# Altium schematic symbol library kmilo17pet-NSC_Interface.SchLib: 1433 symbols (part 45 of 51)
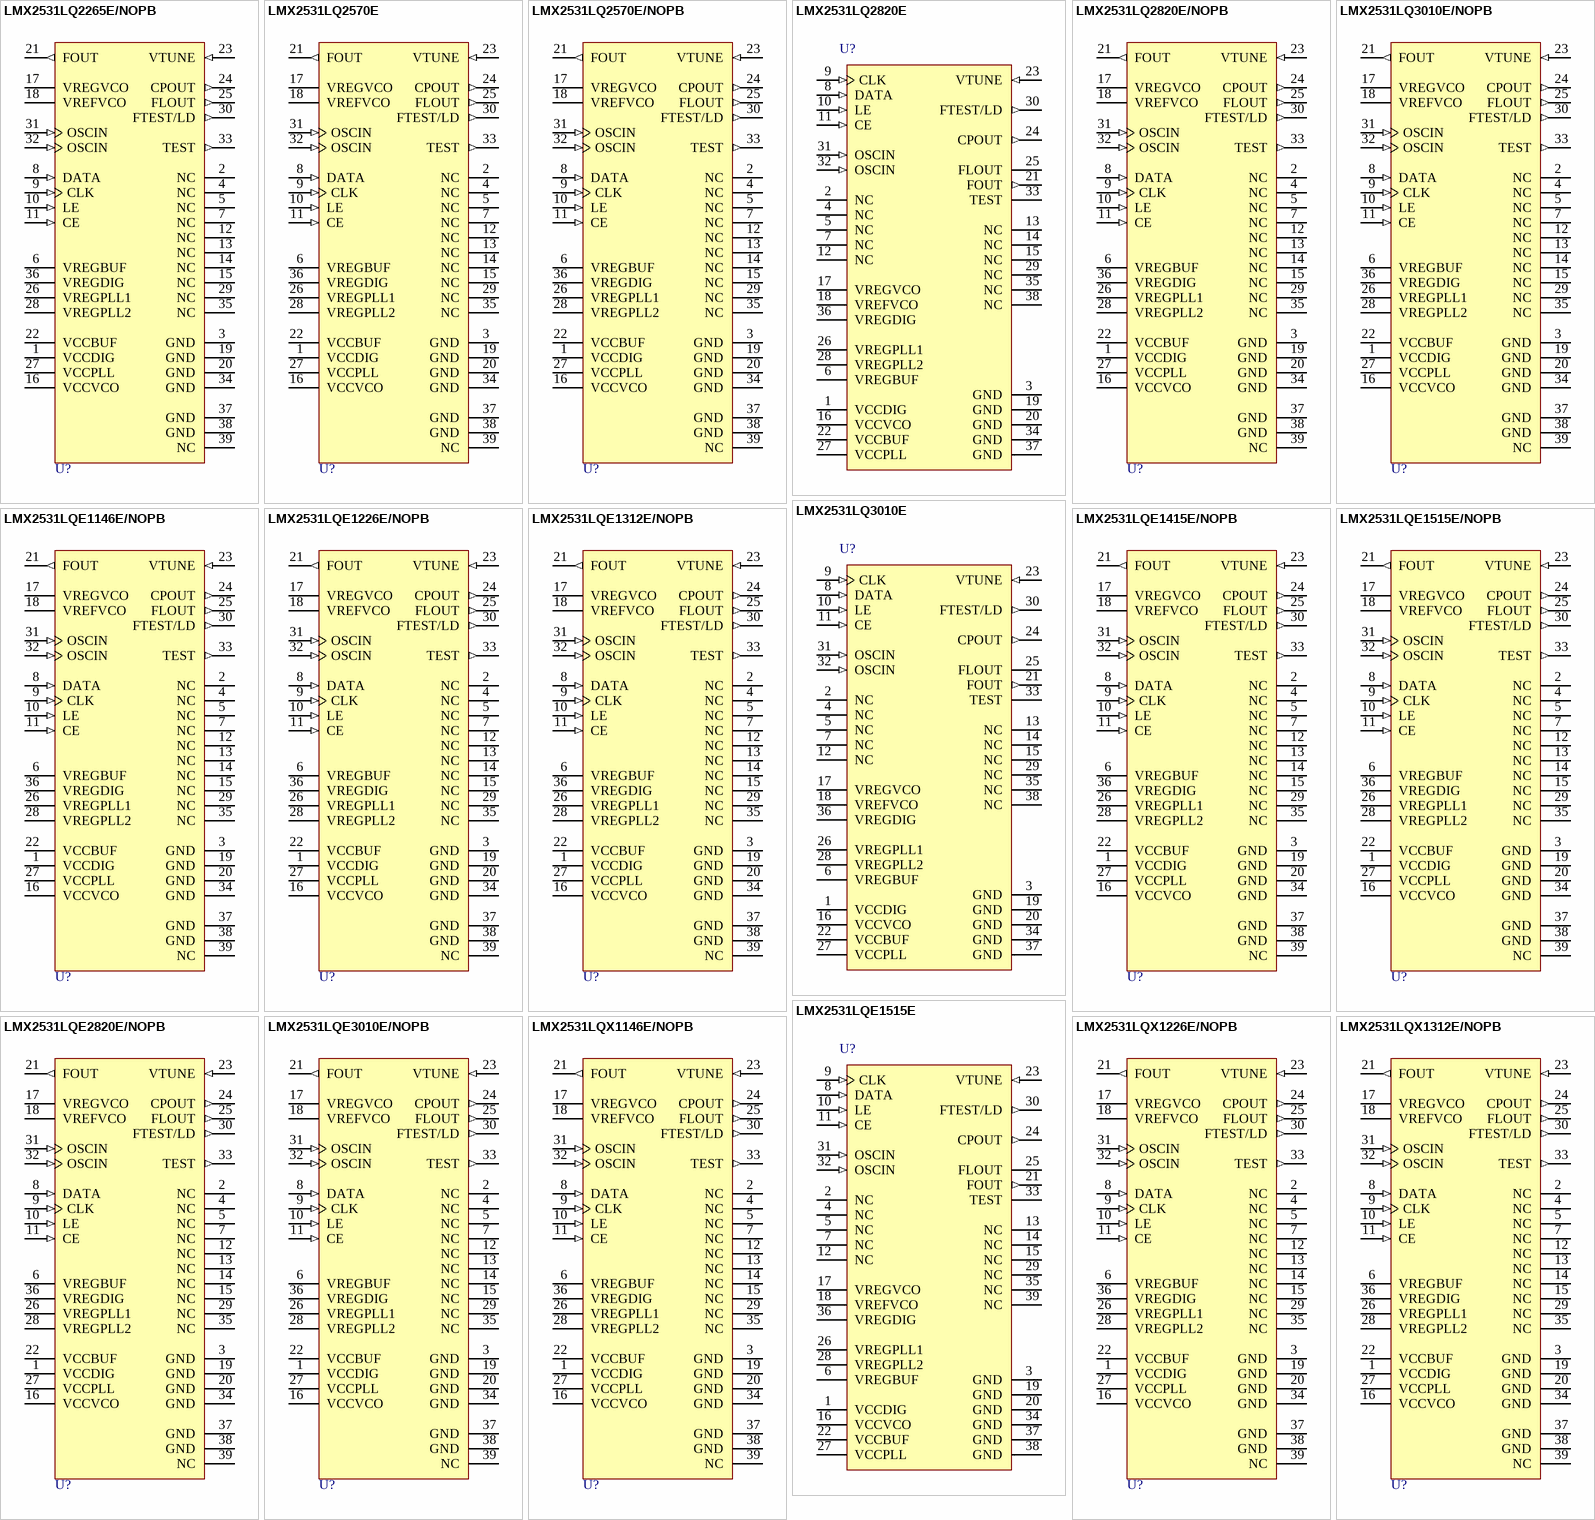
[diagram p168: symbols LMX2531LQ2265E/NOPB to LMX2531LQX1312E/NOPB]

## LMX2531LQX1226E/NOPB
designator U?
High Performance Frequency Synthesizer System with Integrated VCO, 36-pin LLP, Pb-Free; PartNumber: LMX2531LQX1226E/NOPB; Manufacturer: National Semiconductor; PackageTopMarking: NS*UZXYTTE#*311226E; PowerWise: Y; CompType: Interface IC; DatasheetVersion: Dec-2009; PackageVersion: revC, Oct-2003; PackageReference: LQA36A; PackageDescription: LLP, Plastic, Quad, 6 x 6 x 0.8mm Body, 36 Lead, 0.5mm Pitch, Custom; RoHS: Y; PinCount: 36; High-Reliability: Y; ComponentLink1Description: Manufacturer URL; ComponentLink1URL: http://www.national.com/; ComponentLink2Description: LMX2531 Datasheet; ComponentLink2URL: http://www.national.com/ds/LM/LMX2531.pdf; ComponentLink3Description: LMX2531 Web Page; ComponentLink3URL: http://www.national.com/pf/LM/LMX2531.html; ComponentLink4Description: LQA36D Package Page; ComponentLink4URL: http://www.national.com/packaging/folders/lqa36d.html
footprint LQA36A (PQFN, 36-Leads, Body 6x6mm, Pitch 0.5mm, NSC Recommended)
pins: 1 VCCDIG (power), 2 NC, 3 GND (power), 4 NC, 5 NC, 6 VREGBUF (power), 7 NC, 8 DATA (in), 9 CLK (in), 10 LE (in), 11 CE (in), 12 NC, 13 NC, 14 NC, 15 NC, 16 VCCVCO (power), 17 VREGVCO (power), 18 VREFVCO (power), 19 GND (power), 20 GND (power), 21 FOUT (out), 22 VCCBUF (power), 23 VTUNE (in), 24 CPOUT (out), 25 FLOUT (out), 26 VREGPLL1 (power), 27 VCCPLL (power), 28 VREGPLL2 (power), 29 NC, 30 FTEST/LD (out), 31 OSCIN (in), 32 OSCIN (in), 33 TEST (out), 34 GND (power), 35 NC, 36 VREGDIG (power), 37 GND (power), 38 GND (power), 39 NC

## LMX2531LQX1312E/NOPB
designator U?
High Performance Frequency Synthesizer System with Integrated VCO, 36-pin LLP, Pb-Free; PartNumber: LMX2531LQX1312E/NOPB; Manufacturer: National Semiconductor; PackageTopMarking: NS*UZXYTTE#*311312E; PowerWise: Y; CompType: Interface IC; DatasheetVersion: Dec-2009; PackageVersion: revC, Oct-2003; PackageReference: LQA36A; PackageDescription: LLP, Plastic, Quad, 6 x 6 x 0.8mm Body, 36 Lead, 0.5mm Pitch, Custom; RoHS: Y; PinCount: 36; High-Reliability: Y; ComponentLink1Description: Manufacturer URL; ComponentLink1URL: http://www.national.com/; ComponentLink2Description: LMX2531 Datasheet; ComponentLink2URL: http://www.national.com/ds/LM/LMX2531.pdf; ComponentLink3Description: LMX2531 Web Page; ComponentLink3URL: http://www.national.com/pf/LM/LMX2531.html; ComponentLink4Description: LQA36D Package Page; ComponentLink4URL: http://www.national.com/packaging/folders/lqa36d.html
footprint LQA36A (PQFN, 36-Leads, Body 6x6mm, Pitch 0.5mm, NSC Recommended)
pins: 1 VCCDIG (power), 2 NC, 3 GND (power), 4 NC, 5 NC, 6 VREGBUF (power), 7 NC, 8 DATA (in), 9 CLK (in), 10 LE (in), 11 CE (in), 12 NC, 13 NC, 14 NC, 15 NC, 16 VCCVCO (power), 17 VREGVCO (power), 18 VREFVCO (power), 19 GND (power), 20 GND (power), 21 FOUT (out), 22 VCCBUF (power), 23 VTUNE (in), 24 CPOUT (out), 25 FLOUT (out), 26 VREGPLL1 (power), 27 VCCPLL (power), 28 VREGPLL2 (power), 29 NC, 30 FTEST/LD (out), 31 OSCIN (in), 32 OSCIN (in), 33 TEST (out), 34 GND (power), 35 NC, 36 VREGDIG (power), 37 GND (power), 38 GND (power), 39 NC

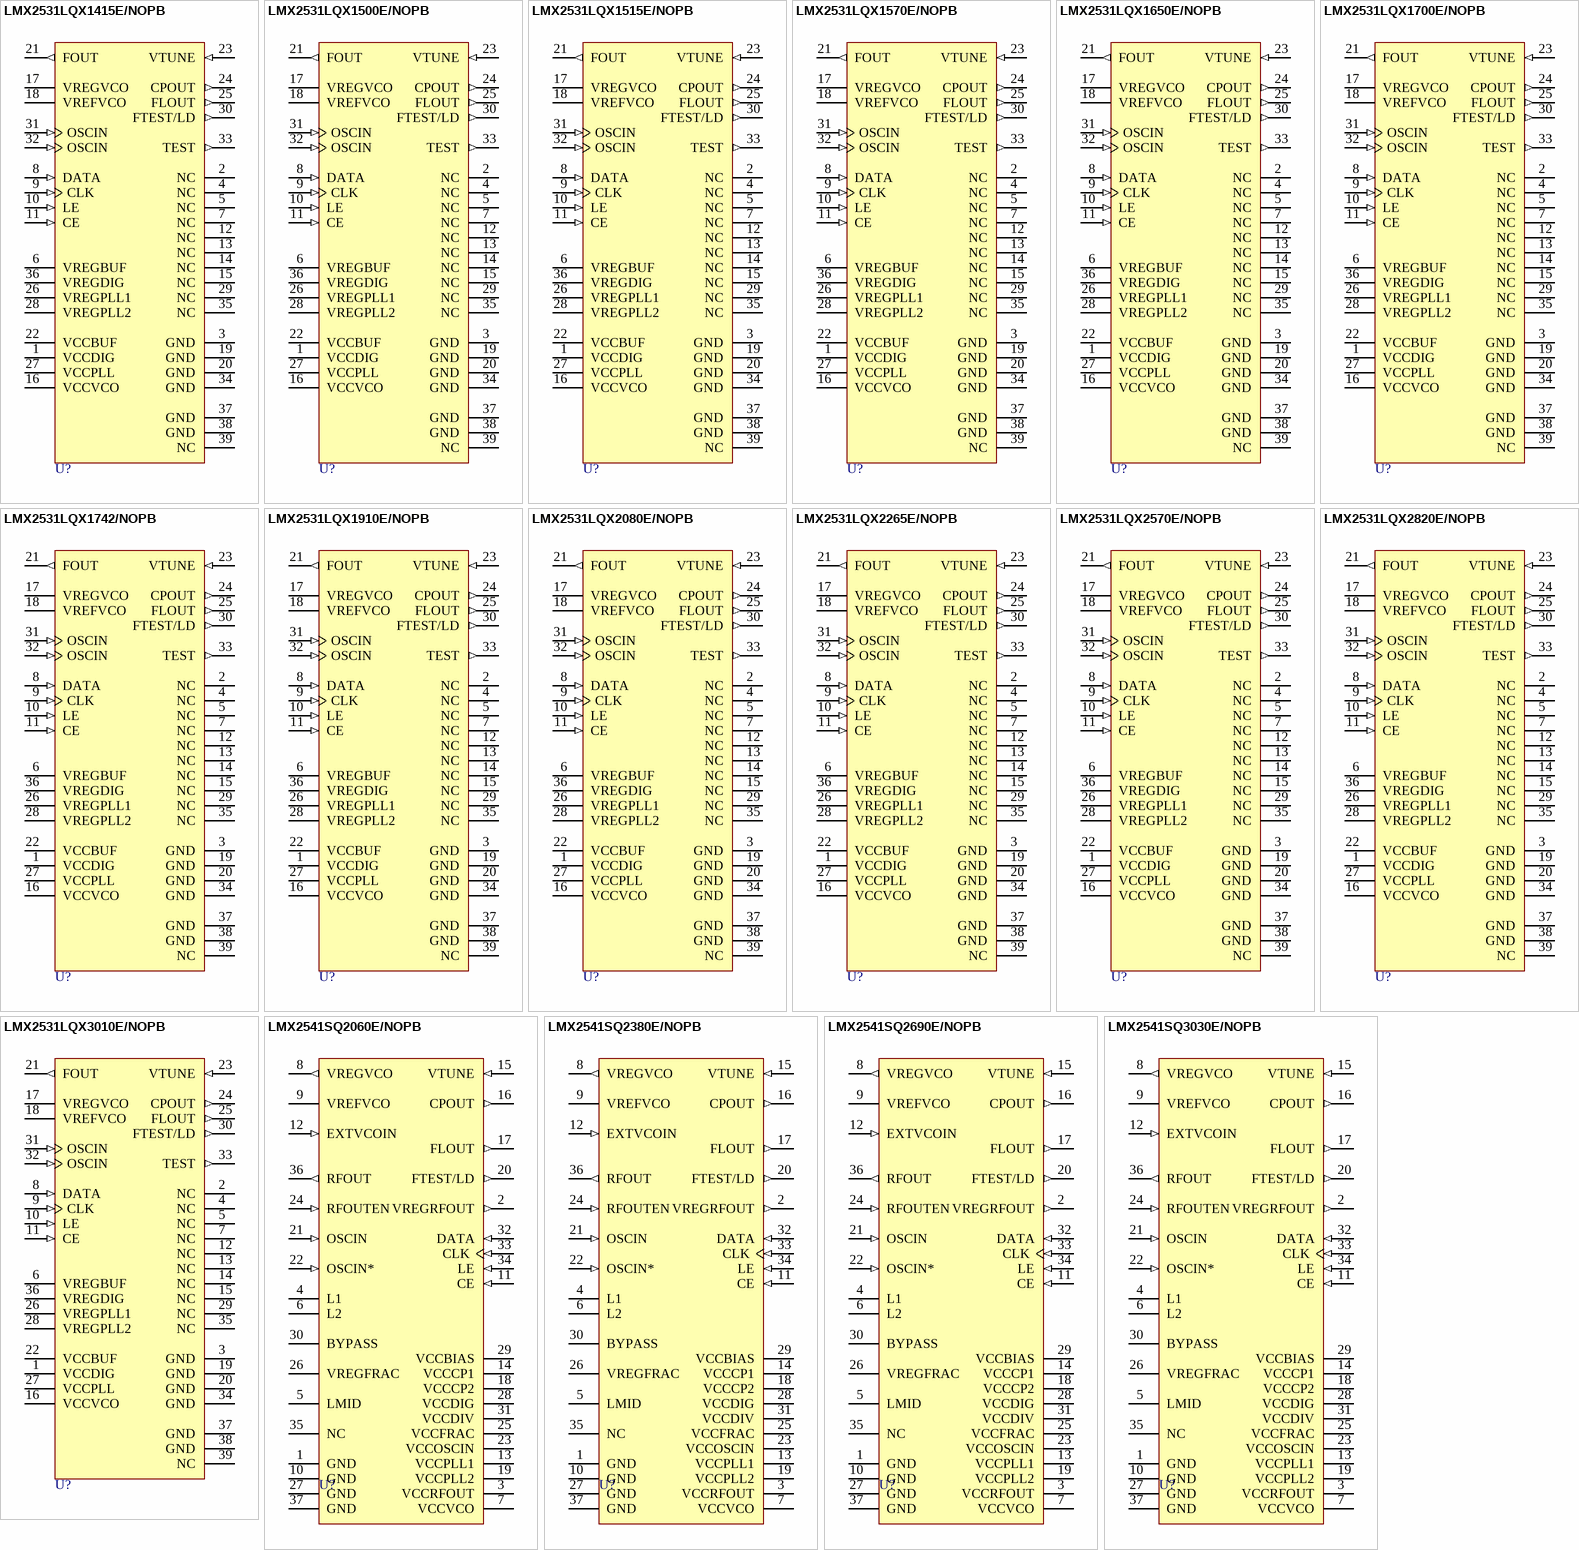
[diagram p108: symbols LMX2531LQX1415E/NOPB to LMX2541SQ3030E/NOPB]

## LMX2531LQX1415E/NOPB
designator U?
High Performance Frequency Synthesizer System with Integrated VCO, 36-pin LLP, Pb-Free; PartNumber: LMX2531LQX1415E/NOPB; Manufacturer: National Semiconductor; PackageTopMarking: NS*UZXYTTE#*311415E; PowerWise: Y; CompType: Interface IC; DatasheetVersion: Dec-2009; PackageVersion: revC, Oct-2003; PackageReference: LQA36A; PackageDescription: LLP, Plastic, Quad, 6 x 6 x 0.8mm Body, 36 Lead, 0.5mm Pitch, Custom; RoHS: Y; PinCount: 36; High-Reliability: Y; ComponentLink1Description: Manufacturer URL; ComponentLink1URL: http://www.national.com/; ComponentLink2Description: LMX2531 Datasheet; ComponentLink2URL: http://www.national.com/ds/LM/LMX2531.pdf; ComponentLink3Description: LMX2531 Web Page; ComponentLink3URL: http://www.national.com/pf/LM/LMX2531.html; ComponentLink4Description: LQA36D Package Page; ComponentLink4URL: http://www.national.com/packaging/folders/lqa36d.html
footprint LQA36A (PQFN, 36-Leads, Body 6x6mm, Pitch 0.5mm, NSC Recommended)
pins: 1 VCCDIG (power), 2 NC, 3 GND (power), 4 NC, 5 NC, 6 VREGBUF (power), 7 NC, 8 DATA (in), 9 CLK (in), 10 LE (in), 11 CE (in), 12 NC, 13 NC, 14 NC, 15 NC, 16 VCCVCO (power), 17 VREGVCO (power), 18 VREFVCO (power), 19 GND (power), 20 GND (power), 21 FOUT (out), 22 VCCBUF (power), 23 VTUNE (in), 24 CPOUT (out), 25 FLOUT (out), 26 VREGPLL1 (power), 27 VCCPLL (power), 28 VREGPLL2 (power), 29 NC, 30 FTEST/LD (out), 31 OSCIN (in), 32 OSCIN (in), 33 TEST (out), 34 GND (power), 35 NC, 36 VREGDIG (power), 37 GND (power), 38 GND (power), 39 NC

## LMX2531LQX1500E/NOPB
designator U?
High Performance Frequency Synthesizer System with Integrated VCO, 36 pin LLP, Pb-Free; PartNumber: LMX2531LQX1500E/NOPB; Manufacturer: National Semiconductor; PackageTopMarking: NS*UZXYTTE#*311500EB; PowerWise: N; CompType: Interface IC; High-Reliability: Y; DatasheetVersion: Dec-2009; PackageVersion: revC, Oct-2003; PackageReference: LQA36A; PackageDescription: LLP, Plastic, Quad, 6 x 6 x 0.8mm Body, 36 Lead, 0.5mm Pitch, Custom; RoHS: Y; PinCount: 36; ComponentLink1Description: Manufacturer URL; ComponentLink1URL: http://www.national.com/; ComponentLink2Description: LMX2531 Datasheet; ComponentLink2URL: http://www.national.com/ds/LM/LMX2531.pdf; ComponentLink3Description: LMX2531 Web Page; ComponentLink3URL: http://www.national.com/pf/LM/LMX2531.html; ComponentLink4Description: LQA36A Package Page; ComponentLink4URL: http://www.national.com/packaging/folders/lqa36a.html
footprint LQA36A (PQFN, 36-Leads, Body 6x6mm, Pitch 0.5mm, NSC Recommended)
pins: 1 VCCDIG (power), 2 NC, 3 GND (power), 4 NC, 5 NC, 6 VREGBUF (power), 7 NC, 8 DATA (in), 9 CLK (in), 10 LE (in), 11 CE (in), 12 NC, 13 NC, 14 NC, 15 NC, 16 VCCVCO (power), 17 VREGVCO (power), 18 VREFVCO (power), 19 GND (power), 20 GND (power), 21 FOUT (out), 22 VCCBUF (power), 23 VTUNE (in), 24 CPOUT (out), 25 FLOUT (out), 26 VREGPLL1 (power), 27 VCCPLL (power), 28 VREGPLL2 (power), 29 NC, 30 FTEST/LD (out), 31 OSCIN (in), 32 OSCIN (in), 33 TEST (out), 34 GND (power), 35 NC, 36 VREGDIG (power), 37 GND (power), 38 GND (power), 39 NC

## LMX2531LQX1515E/NOPB
designator U?
High Performance Frequency Synthesizer System with Integrated VCO, 36-pin LLP, Pb-Free; PartNumber: LMX2531LQX1515E/NOPB; Manufacturer: National Semiconductor; PackageTopMarking: NS*UZXYTTE#*311515E; PowerWise: Y; CompType: Interface IC; DatasheetVersion: Dec-2009; PackageVersion: revC, Oct-2003; PackageReference: LQA36A; PackageDescription: LLP, Plastic, Quad, 6 x 6 x 0.8mm Body, 36 Lead, 0.5mm Pitch, Custom; RoHS: Y; PinCount: 36; High-Reliability: Y; ComponentLink1Description: Manufacturer URL; ComponentLink1URL: http://www.national.com/; ComponentLink2Description: LMX2531 Datasheet; ComponentLink2URL: http://www.national.com/ds/LM/LMX2531.pdf; ComponentLink3Description: LMX2531 Web Page; ComponentLink3URL: http://www.national.com/pf/LM/LMX2531.html; ComponentLink4Description: LQA36D Package Page; ComponentLink4URL: http://www.national.com/packaging/folders/lqa36d.html
footprint LQA36A (PQFN, 36-Leads, Body 6x6mm, Pitch 0.5mm, NSC Recommended)
pins: 1 VCCDIG (power), 2 NC, 3 GND (power), 4 NC, 5 NC, 6 VREGBUF (power), 7 NC, 8 DATA (in), 9 CLK (in), 10 LE (in), 11 CE (in), 12 NC, 13 NC, 14 NC, 15 NC, 16 VCCVCO (power), 17 VREGVCO (power), 18 VREFVCO (power), 19 GND (power), 20 GND (power), 21 FOUT (out), 22 VCCBUF (power), 23 VTUNE (in), 24 CPOUT (out), 25 FLOUT (out), 26 VREGPLL1 (power), 27 VCCPLL (power), 28 VREGPLL2 (power), 29 NC, 30 FTEST/LD (out), 31 OSCIN (in), 32 OSCIN (in), 33 TEST (out), 34 GND (power), 35 NC, 36 VREGDIG (power), 37 GND (power), 38 GND (power), 39 NC

## LMX2531LQX1570E/NOPB
designator U?
High Performance Frequency Synthesizer System with Integrated VCO, 36-pin LLP, Pb-Free; PartNumber: LMX2531LQX1570E/NOPB; Manufacturer: National Semiconductor; PackageTopMarking: NS*UZXYTTE#*311570EB; PowerWise: Y; CompType: Interface IC; DatasheetVersion: Dec-2009; PackageVersion: revC, Oct-2003; PackageReference: LQA36A; PackageDescription: LLP, Plastic, Quad, 6 x 6 x 0.8mm Body, 36 Lead, 0.5mm Pitch, Custom; RoHS: Y; PinCount: 36; High-Reliability: Y; ComponentLink1Description: Manufacturer URL; ComponentLink1URL: http://www.national.com/; ComponentLink2Description: LMX2531 Datasheet; ComponentLink2URL: http://www.national.com/ds/LM/LMX2531.pdf; ComponentLink3Description: LMX2531 Web Page; ComponentLink3URL: http://www.national.com/pf/LM/LMX2531.html; ComponentLink4Description: LQA36A Package Page; ComponentLink4URL: http://www.national.com/packaging/folders/lqa36a.html
footprint LQA36A (PQFN, 36-Leads, Body 6x6mm, Pitch 0.5mm, NSC Recommended)
pins: 1 VCCDIG (power), 2 NC, 3 GND (power), 4 NC, 5 NC, 6 VREGBUF (power), 7 NC, 8 DATA (in), 9 CLK (in), 10 LE (in), 11 CE (in), 12 NC, 13 NC, 14 NC, 15 NC, 16 VCCVCO (power), 17 VREGVCO (power), 18 VREFVCO (power), 19 GND (power), 20 GND (power), 21 FOUT (out), 22 VCCBUF (power), 23 VTUNE (in), 24 CPOUT (out), 25 FLOUT (out), 26 VREGPLL1 (power), 27 VCCPLL (power), 28 VREGPLL2 (power), 29 NC, 30 FTEST/LD (out), 31 OSCIN (in), 32 OSCIN (in), 33 TEST (out), 34 GND (power), 35 NC, 36 VREGDIG (power), 37 GND (power), 38 GND (power), 39 NC

## LMX2531LQX1650E/NOPB
designator U?
High Performance Frequency Synthesizer System with Integrated VCO, 36-pin LLP, Pb-Free; PartNumber: LMX2531LQX1650E/NOPB; Manufacturer: National Semiconductor; PackageTopMarking: NS*UZXYTTE#*311650EA; PowerWise: Y; CompType: Interface IC; DatasheetVersion: Dec-2009; PackageVersion: revC, Oct-2003; PackageReference: LQA36A; PackageDescription: LLP, Plastic, Quad, 6 x 6 x 0.8mm Body, 36 Lead, 0.5mm Pitch, Custom; RoHS: Y; PinCount: 36; High-Reliability: Y; ComponentLink1Description: Manufacturer URL; ComponentLink1URL: http://www.national.com/; ComponentLink2Description: LMX2531 Datasheet; ComponentLink2URL: http://www.national.com/ds/LM/LMX2531.pdf; ComponentLink3Description: LMX2531 Web Page; ComponentLink3URL: http://www.national.com/pf/LM/LMX2531.html; ComponentLink4Description: LQA36A Package Page; ComponentLink4URL: http://www.national.com/packaging/folders/lqa36a.html
footprint LQA36A (PQFN, 36-Leads, Body 6x6mm, Pitch 0.5mm, NSC Recommended)
pins: 1 VCCDIG (power), 2 NC, 3 GND (power), 4 NC, 5 NC, 6 VREGBUF (power), 7 NC, 8 DATA (in), 9 CLK (in), 10 LE (in), 11 CE (in), 12 NC, 13 NC, 14 NC, 15 NC, 16 VCCVCO (power), 17 VREGVCO (power), 18 VREFVCO (power), 19 GND (power), 20 GND (power), 21 FOUT (out), 22 VCCBUF (power), 23 VTUNE (in), 24 CPOUT (out), 25 FLOUT (out), 26 VREGPLL1 (power), 27 VCCPLL (power), 28 VREGPLL2 (power), 29 NC, 30 FTEST/LD (out), 31 OSCIN (in), 32 OSCIN (in), 33 TEST (out), 34 GND (power), 35 NC, 36 VREGDIG (power), 37 GND (power), 38 GND (power), 39 NC

## LMX2531LQX1700E/NOPB
designator U?
High Performance Frequency Synthesizer System with Integrated VCO, 36-pin LLP, Pb-Free; PartNumber: LMX2531LQX1700E/NOPB; Manufacturer: National Semiconductor; PackageTopMarking: NS*UZXYTTE#*311700EB; PowerWise: N; CompType: Interface IC; High-Reliability: Y; DatasheetVersion: Dec-2009; PackageVersion: revC, Oct-2003; PackageReference: LQA36A; PackageDescription: LLP, Plastic, Quad, 6 x 6 x 0.8mm Body, 36 Lead, 0.5mm Pitch, Custom; RoHS: Y; PinCount: 36; ComponentLink1Description: Manufacturer URL; ComponentLink1URL: http://www.national.com/; ComponentLink2Description: LMX2531 Datasheet; ComponentLink2URL: http://www.national.com/ds/LM/LMX2531.pdf; ComponentLink3Description: LMX2531 Web Page; ComponentLink3URL: http://www.national.com/pf/LM/LMX2531.html; ComponentLink4Description: LQA36A Package Page; ComponentLink4URL: http://www.national.com/packaging/folders/lqa36a.html
footprint LQA36A (PQFN, 36-Leads, Body 6x6mm, Pitch 0.5mm, NSC Recommended)
pins: 1 VCCDIG (power), 2 NC, 3 GND (power), 4 NC, 5 NC, 6 VREGBUF (power), 7 NC, 8 DATA (in), 9 CLK (in), 10 LE (in), 11 CE (in), 12 NC, 13 NC, 14 NC, 15 NC, 16 VCCVCO (power), 17 VREGVCO (power), 18 VREFVCO (power), 19 GND (power), 20 GND (power), 21 FOUT (out), 22 VCCBUF (power), 23 VTUNE (in), 24 CPOUT (out), 25 FLOUT (out), 26 VREGPLL1 (power), 27 VCCPLL (power), 28 VREGPLL2 (power), 29 NC, 30 FTEST/LD (out), 31 OSCIN (in), 32 OSCIN (in), 33 TEST (out), 34 GND (power), 35 NC, 36 VREGDIG (power), 37 GND (power), 38 GND (power), 39 NC

## LMX2531LQX1742/NOPB
designator U?
High Performance Frequency Synthesizer System with Integrated VCO, 36-pin LLP, Pb-Free; PartNumber: LMX2531LQX1742/NOPB; Manufacturer: National Semiconductor; PackageTopMarking: NS*UZXYTTE#*311742A; PowerWise: Y; CompType: Interface IC; DatasheetVersion: Dec-2009; PackageVersion: revC, Oct-2003; PackageReference: LQA36A; PackageDescription: LLP, Plastic, Quad, 6 x 6 x 0.8mm Body, 36 Lead, 0.5mm Pitch, Custom; RoHS: Y; PinCount: 36; High-Reliability: Y; ComponentLink1Description: Manufacturer URL; ComponentLink1URL: http://www.national.com/; ComponentLink2Description: LMX2531 Datasheet; ComponentLink2URL: http://www.national.com/ds/LM/LMX2531.pdf; ComponentLink3Description: LMX2531 Web Page; ComponentLink3URL: http://www.national.com/pf/LM/LMX2531.html; ComponentLink4Description: LQA36A Package Page; ComponentLink4URL: http://www.national.com/packaging/folders/lqa36a.html
footprint LQA36A (PQFN, 36-Leads, Body 6x6mm, Pitch 0.5mm, NSC Recommended)
pins: 1 VCCDIG (power), 2 NC, 3 GND (power), 4 NC, 5 NC, 6 VREGBUF (power), 7 NC, 8 DATA (in), 9 CLK (in), 10 LE (in), 11 CE (in), 12 NC, 13 NC, 14 NC, 15 NC, 16 VCCVCO (power), 17 VREGVCO (power), 18 VREFVCO (power), 19 GND (power), 20 GND (power), 21 FOUT (out), 22 VCCBUF (power), 23 VTUNE (in), 24 CPOUT (out), 25 FLOUT (out), 26 VREGPLL1 (power), 27 VCCPLL (power), 28 VREGPLL2 (power), 29 NC, 30 FTEST/LD (out), 31 OSCIN (in), 32 OSCIN (in), 33 TEST (out), 34 GND (power), 35 NC, 36 VREGDIG (power), 37 GND (power), 38 GND (power), 39 NC

## LMX2531LQX1910E/NOPB
designator U?
High Performance Frequency Synthesizer System with Integrated VCO, 36-pin LLP, Pb-Free; PartNumber: LMX2531LQX1910E/NOPB; Manufacturer: National Semiconductor; PackageTopMarking: NS*UZXYTTE#*311910EB; PowerWise: Y; CompType: Interface IC; DatasheetVersion: Dec-2009; PackageVersion: revC, Oct-2003; PackageReference: LQA36A; PackageDescription: LLP, Plastic, Quad, 6 x 6 x 0.8mm Body, 36 Lead, 0.5mm Pitch, Custom; RoHS: Y; PinCount: 36; High-Reliability: Y; ComponentLink1Description: Manufacturer URL; ComponentLink1URL: http://www.national.com/; ComponentLink2Description: LMX2531 Datasheet; ComponentLink2URL: http://www.national.com/ds/LM/LMX2531.pdf; ComponentLink3Description: LMX2531 Web Page; ComponentLink3URL: http://www.national.com/pf/LM/LMX2531.html; ComponentLink4Description: LQA36A Package Page; ComponentLink4URL: http://www.national.com/packaging/folders/lqa36a.html
footprint LQA36A (PQFN, 36-Leads, Body 6x6mm, Pitch 0.5mm, NSC Recommended)
pins: 1 VCCDIG (power), 2 NC, 3 GND (power), 4 NC, 5 NC, 6 VREGBUF (power), 7 NC, 8 DATA (in), 9 CLK (in), 10 LE (in), 11 CE (in), 12 NC, 13 NC, 14 NC, 15 NC, 16 VCCVCO (power), 17 VREGVCO (power), 18 VREFVCO (power), 19 GND (power), 20 GND (power), 21 FOUT (out), 22 VCCBUF (power), 23 VTUNE (in), 24 CPOUT (out), 25 FLOUT (out), 26 VREGPLL1 (power), 27 VCCPLL (power), 28 VREGPLL2 (power), 29 NC, 30 FTEST/LD (out), 31 OSCIN (in), 32 OSCIN (in), 33 TEST (out), 34 GND (power), 35 NC, 36 VREGDIG (power), 37 GND (power), 38 GND (power), 39 NC

## LMX2531LQX2080E/NOPB
designator U?
High Performance Frequency Synthesizer System with Integrated VCO, 36-pin LLP, Pb-Free; PartNumber: LMX2531LQX2080E/NOPB; Manufacturer: National Semiconductor; PackageTopMarking: NS*UZXYTTE#*312080EB; PowerWise: N; CompType: Interface IC; High-Reliability: Y; DatasheetVersion: Dec-2009; PackageVersion: revC, Oct-2003; PackageReference: LQA36A; PackageDescription: LLP, Plastic, Quad, 6 x 6 x 0.8mm Body, 36 Lead, 0.5mm Pitch, Custom; RoHS: Y; PinCount: 36; ComponentLink1Description: Manufacturer URL; ComponentLink1URL: http://www.national.com/; ComponentLink2Description: LMX2531 Datasheet; ComponentLink2URL: http://www.national.com/ds/LM/LMX2531.pdf; ComponentLink3Description: LMX2531 Web Page; ComponentLink3URL: http://www.national.com/pf/LM/LMX2531.html; ComponentLink4Description: LQA36A Package Page; ComponentLink4URL: http://www.national.com/packaging/folders/lqa36a.html
footprint LQA36A (PQFN, 36-Leads, Body 6x6mm, Pitch 0.5mm, NSC Recommended)
pins: 1 VCCDIG (power), 2 NC, 3 GND (power), 4 NC, 5 NC, 6 VREGBUF (power), 7 NC, 8 DATA (in), 9 CLK (in), 10 LE (in), 11 CE (in), 12 NC, 13 NC, 14 NC, 15 NC, 16 VCCVCO (power), 17 VREGVCO (power), 18 VREFVCO (power), 19 GND (power), 20 GND (power), 21 FOUT (out), 22 VCCBUF (power), 23 VTUNE (in), 24 CPOUT (out), 25 FLOUT (out), 26 VREGPLL1 (power), 27 VCCPLL (power), 28 VREGPLL2 (power), 29 NC, 30 FTEST/LD (out), 31 OSCIN (in), 32 OSCIN (in), 33 TEST (out), 34 GND (power), 35 NC, 36 VREGDIG (power), 37 GND (power), 38 GND (power), 39 NC

## LMX2531LQX2265E/NOPB
designator U?
High Performance Frequency Synthesizer System with Integrated VCO, 36-pin LLP, Pb-Free; PartNumber: LMX2531LQX2265E/NOPB; Manufacturer: National Semiconductor; PackageTopMarking: NS*UZXYTTE#*312265ED; PowerWise: Y; CompType: Interface IC; DatasheetVersion: Dec-2009; PackageVersion: revC, Oct-2003; PackageReference: LQA36A; PackageDescription: LLP, Plastic, Quad, 6 x 6 x 0.8mm Body, 36 Lead, 0.5mm Pitch, Custom; RoHS: Y; PinCount: 36; High-Reliability: Y; ComponentLink1Description: Manufacturer URL; ComponentLink1URL: http://www.national.com/; ComponentLink2Description: LMX2531 Datasheet; ComponentLink2URL: http://www.national.com/ds/LM/LMX2531.pdf; ComponentLink3Description: LMX2531 Web Page; ComponentLink3URL: http://www.national.com/pf/LM/LMX2531.html; ComponentLink4Description: LQA36A Package Page; ComponentLink4URL: http://www.national.com/packaging/folders/lqa36a.html
footprint LQA36A (PQFN, 36-Leads, Body 6x6mm, Pitch 0.5mm, NSC Recommended)
pins: 1 VCCDIG (power), 2 NC, 3 GND (power), 4 NC, 5 NC, 6 VREGBUF (power), 7 NC, 8 DATA (in), 9 CLK (in), 10 LE (in), 11 CE (in), 12 NC, 13 NC, 14 NC, 15 NC, 16 VCCVCO (power), 17 VREGVCO (power), 18 VREFVCO (power), 19 GND (power), 20 GND (power), 21 FOUT (out), 22 VCCBUF (power), 23 VTUNE (in), 24 CPOUT (out), 25 FLOUT (out), 26 VREGPLL1 (power), 27 VCCPLL (power), 28 VREGPLL2 (power), 29 NC, 30 FTEST/LD (out), 31 OSCIN (in), 32 OSCIN (in), 33 TEST (out), 34 GND (power), 35 NC, 36 VREGDIG (power), 37 GND (power), 38 GND (power), 39 NC

## LMX2531LQX2570E/NOPB
designator U?
High Performance Frequency Synthesizer System with Integrated VCO, 36-pin LLP, Pb-Free; PartNumber: LMX2531LQX2570E/NOPB; Manufacturer: National Semiconductor; PackageTopMarking: NS*UZXYTTE#*312570EC; PowerWise: Y; CompType: Interface IC; DatasheetVersion: Dec-2009; PackageVersion: revC, Oct-2003; PackageReference: LQA36A; PackageDescription: LLP, Plastic, Quad, 6 x 6 x 0.8mm Body, 36 Lead, 0.5mm Pitch, Custom; RoHS: Y; PinCount: 36; High-Reliability: Y; ComponentLink1Description: Manufacturer URL; ComponentLink1URL: http://www.national.com/; ComponentLink2Description: LMX2531 Datasheet; ComponentLink2URL: http://www.national.com/ds/LM/LMX2531.pdf; ComponentLink3Description: LMX2531 Web Page; ComponentLink3URL: http://www.national.com/pf/LM/LMX2531.html; ComponentLink4Description: LQA36D Package Page; ComponentLink4URL: http://www.national.com/packaging/folders/lqa36d.html
footprint LQA36A (PQFN, 36-Leads, Body 6x6mm, Pitch 0.5mm, NSC Recommended)
pins: 1 VCCDIG (power), 2 NC, 3 GND (power), 4 NC, 5 NC, 6 VREGBUF (power), 7 NC, 8 DATA (in), 9 CLK (in), 10 LE (in), 11 CE (in), 12 NC, 13 NC, 14 NC, 15 NC, 16 VCCVCO (power), 17 VREGVCO (power), 18 VREFVCO (power), 19 GND (power), 20 GND (power), 21 FOUT (out), 22 VCCBUF (power), 23 VTUNE (in), 24 CPOUT (out), 25 FLOUT (out), 26 VREGPLL1 (power), 27 VCCPLL (power), 28 VREGPLL2 (power), 29 NC, 30 FTEST/LD (out), 31 OSCIN (in), 32 OSCIN (in), 33 TEST (out), 34 GND (power), 35 NC, 36 VREGDIG (power), 37 GND (power), 38 GND (power), 39 NC

## LMX2531LQX2820E/NOPB
designator U?
High Performance Frequency Synthesizer System with Integrated VCO, 36-pin LLP, Pb-Free; PartNumber: LMX2531LQX2820E/NOPB; Manufacturer: National Semiconductor; PackageTopMarking: NS*UZXYTTE#*312820E; PowerWise: Y; CompType: Interface IC; DatasheetVersion: Dec-2009; PackageVersion: revC, Oct-2003; PackageReference: LQA36A; PackageDescription: LLP, Plastic, Quad, 6 x 6 x 0.8mm Body, 36 Lead, 0.5mm Pitch, Custom; RoHS: Y; PinCount: 36; High-Reliability: Y; ComponentLink1Description: Manufacturer URL; ComponentLink1URL: http://www.national.com/; ComponentLink2Description: LMX2531 Datasheet; ComponentLink2URL: http://www.national.com/ds/LM/LMX2531.pdf; ComponentLink3Description: LMX2531 Web Page; ComponentLink3URL: http://www.national.com/pf/LM/LMX2531.html; ComponentLink4Description: LQA36A Package Page; ComponentLink4URL: http://www.national.com/packaging/folders/lqa36a.html
footprint LQA36A (PQFN, 36-Leads, Body 6x6mm, Pitch 0.5mm, NSC Recommended)
pins: 1 VCCDIG (power), 2 NC, 3 GND (power), 4 NC, 5 NC, 6 VREGBUF (power), 7 NC, 8 DATA (in), 9 CLK (in), 10 LE (in), 11 CE (in), 12 NC, 13 NC, 14 NC, 15 NC, 16 VCCVCO (power), 17 VREGVCO (power), 18 VREFVCO (power), 19 GND (power), 20 GND (power), 21 FOUT (out), 22 VCCBUF (power), 23 VTUNE (in), 24 CPOUT (out), 25 FLOUT (out), 26 VREGPLL1 (power), 27 VCCPLL (power), 28 VREGPLL2 (power), 29 NC, 30 FTEST/LD (out), 31 OSCIN (in), 32 OSCIN (in), 33 TEST (out), 34 GND (power), 35 NC, 36 VREGDIG (power), 37 GND (power), 38 GND (power), 39 NC

## LMX2531LQX3010E/NOPB
designator U?
High Performance Frequency Synthesizer System with Integrated VCO, 36-pin LLP, Pb-Free; PartNumber: LMX2531LQX3010E/NOPB; Manufacturer: National Semiconductor; PackageTopMarking: NS*UZXYTTE#*313010E; PowerWise: Y; CompType: Interface IC; DatasheetVersion: Dec-2009; PackageVersion: revC, Oct-2003; PackageReference: LQA36A; PackageDescription: LLP, Plastic, Quad, 6 x 6 x 0.8mm Body, 36 Lead, 0.5mm Pitch, Custom; RoHS: Y; PinCount: 36; High-Reliability: Y; ComponentLink1Description: Manufacturer URL; ComponentLink1URL: http://www.national.com/; ComponentLink2Description: LMX2531 Datasheet; ComponentLink2URL: http://www.national.com/ds/LM/LMX2531.pdf; ComponentLink3Description: LMX2531 Web Page; ComponentLink3URL: http://www.national.com/pf/LM/LMX2531.html; ComponentLink4Description: LQA36D Package Page; ComponentLink4URL: http://www.national.com/packaging/folders/lqa36d.html
footprint LQA36A (PQFN, 36-Leads, Body 6x6mm, Pitch 0.5mm, NSC Recommended)
pins: 1 VCCDIG (power), 2 NC, 3 GND (power), 4 NC, 5 NC, 6 VREGBUF (power), 7 NC, 8 DATA (in), 9 CLK (in), 10 LE (in), 11 CE (in), 12 NC, 13 NC, 14 NC, 15 NC, 16 VCCVCO (power), 17 VREGVCO (power), 18 VREFVCO (power), 19 GND (power), 20 GND (power), 21 FOUT (out), 22 VCCBUF (power), 23 VTUNE (in), 24 CPOUT (out), 25 FLOUT (out), 26 VREGPLL1 (power), 27 VCCPLL (power), 28 VREGPLL2 (power), 29 NC, 30 FTEST/LD (out), 31 OSCIN (in), 32 OSCIN (in), 33 TEST (out), 34 GND (power), 35 NC, 36 VREGDIG (power), 37 GND (power), 38 GND (power), 39 NC

## LMX2541SQ2060E/NOPB
designator U?
Ultra-Low Noise PLLatinum Frequency Synthesizer with Integrated VCO, 36-pin LLP, Pb-Free; PartNumber: LMX2541SQ2060E/NOPB; Manufacturer: National Semiconductor; PackageTopMarking: NS*UZXYTTE#*412060E; PowerWise: Y; CompType: Interface IC; DatasheetVersion: Feb-2010; PackageVersion: revA, Jun-2003; PackageReference: SQA36A; PackageDescription: LLP, Plastic, Quad, 6 x 6 x 0.8mm Body, 36 Lead, 0.5mm Pitch, No Pullback; RoHS: Y; PinCount: 36; High-Reliability: Y; ComponentLink1Description: Manufacturer URL; ComponentLink1URL: http://www.national.com/; ComponentLink2Description: LMX2541 Datasheet; ComponentLink2URL: http://www.national.com/ds/LM/LMX2541.pdf; ComponentLink3Description: LMX2541 Web Page; ComponentLink3URL: http://www.national.com/pf/LM/LMX2541.html; ComponentLink4Description: SQA36A Package Page; ComponentLink4URL: http://www.national.com/packaging/folders/sqa36a.html
footprint SQA36A (QFN, 36-Leads, Body 6x6mm, Pitch 0.5mm, Thermal Pad 4.7x4.7mm, NSC Recommended)
pins: 1 GND (power), 2 VREGRFOUT (out), 3 VCCRFOUT (power), 4 L1, 5 LMID, 6 L2, 7 VCCVCO (power), 8 VREGVCO (out), 9 VREFVCO, 10 GND (power), 11 CE (in), 12 EXTVCOIN (in), 13 VCCPLL1, 14 VCCCP1, 15 VTUNE (in), 16 CPOUT (out), 17 FLOUT (out), 18 VCCCP2 (power), 19 VCCPLL2 (power), 20 FTEST/LD (out), 21 OSCIN (in), 22 OSCIN* (in), 23 VCCOSCIN (power), 24 RFOUTEN (in), 25 VCCFRAC (power), 26 VREGFRAC (power), 27 GND (power), 28 VCCDIG (power), 29 VCCBIAS (power), 30 BYPASS, 31 VCCDIV (power), 32 DATA (in), 33 CLK (in), 34 LE (in), 35 NC, 36 RFOUT (out), 37 GND (power)

## LMX2541SQ2380E/NOPB
designator U?
Ultra-Low Noise PLLatinum Frequency Synthesizer with Integrated VCO, 36-pin LLP, Pb-Free; PartNumber: LMX2541SQ2380E/NOPB; Manufacturer: National Semiconductor; PackageTopMarking: NS*UZXYTTE#*412380E; PowerWise: Y; CompType: Interface IC; DatasheetVersion: Feb-2010; PackageVersion: revA, Jun-2003; PackageReference: SQA36A; PackageDescription: LLP, Plastic, Quad, 6 x 6 x 0.8mm Body, 36 Lead, 0.5mm Pitch, No Pullback; RoHS: Y; PinCount: 36; High-Reliability: Y; ComponentLink1Description: Manufacturer URL; ComponentLink1URL: http://www.national.com/; ComponentLink2Description: LMX2541 Datasheet; ComponentLink2URL: http://www.national.com/ds/LM/LMX2541.pdf; ComponentLink3Description: LMX2541 Web Page; ComponentLink3URL: http://www.national.com/pf/LM/LMX2541.html; ComponentLink4Description: SQA36A Package Page; ComponentLink4URL: http://www.national.com/packaging/folders/sqa36a.html
footprint SQA36A (QFN, 36-Leads, Body 6x6mm, Pitch 0.5mm, Thermal Pad 4.7x4.7mm, NSC Recommended)
pins: 1 GND (power), 2 VREGRFOUT (out), 3 VCCRFOUT (power), 4 L1, 5 LMID, 6 L2, 7 VCCVCO (power), 8 VREGVCO (out), 9 VREFVCO, 10 GND (power), 11 CE (in), 12 EXTVCOIN (in), 13 VCCPLL1, 14 VCCCP1, 15 VTUNE (in), 16 CPOUT (out), 17 FLOUT (out), 18 VCCCP2 (power), 19 VCCPLL2 (power), 20 FTEST/LD (out), 21 OSCIN (in), 22 OSCIN* (in), 23 VCCOSCIN (power), 24 RFOUTEN (in), 25 VCCFRAC (power), 26 VREGFRAC (power), 27 GND (power), 28 VCCDIG (power), 29 VCCBIAS (power), 30 BYPASS, 31 VCCDIV (power), 32 DATA (in), 33 CLK (in), 34 LE (in), 35 NC, 36 RFOUT (out), 37 GND (power)

## LMX2541SQ2690E/NOPB
designator U?
Ultra-Low Noise PLLatinum Frequency Synthesizer with Integrated VCO, 36-pin LLP, Pb-Free; PartNumber: LMX2541SQ2690E/NOPB; Manufacturer: National Semiconductor; PackageTopMarking: NS*UZXYTTE#*412690E; PowerWise: Y; CompType: Interface IC; DatasheetVersion: Feb-2010; PackageVersion: revA, Jun-2003; PackageReference: SQA36A; PackageDescription: LLP, Plastic, Quad, 6 x 6 x 0.8mm Body, 36 Lead, 0.5mm Pitch, No Pullback; RoHS: Y; PinCount: 36; High-Reliability: Y; ComponentLink1Description: Manufacturer URL; ComponentLink1URL: http://www.national.com/; ComponentLink2Description: LMX2541 Datasheet; ComponentLink2URL: http://www.national.com/ds/LM/LMX2541.pdf; ComponentLink3Description: LMX2541 Web Page; ComponentLink3URL: http://www.national.com/pf/LM/LMX2541.html; ComponentLink4Description: SQA36A Package Page; ComponentLink4URL: http://www.national.com/packaging/folders/sqa36a.html
footprint SQA36A (QFN, 36-Leads, Body 6x6mm, Pitch 0.5mm, Thermal Pad 4.7x4.7mm, NSC Recommended)
pins: 1 GND (power), 2 VREGRFOUT (out), 3 VCCRFOUT (power), 4 L1, 5 LMID, 6 L2, 7 VCCVCO (power), 8 VREGVCO (out), 9 VREFVCO, 10 GND (power), 11 CE (in), 12 EXTVCOIN (in), 13 VCCPLL1, 14 VCCCP1, 15 VTUNE (in), 16 CPOUT (out), 17 FLOUT (out), 18 VCCCP2 (power), 19 VCCPLL2 (power), 20 FTEST/LD (out), 21 OSCIN (in), 22 OSCIN* (in), 23 VCCOSCIN (power), 24 RFOUTEN (in), 25 VCCFRAC (power), 26 VREGFRAC (power), 27 GND (power), 28 VCCDIG (power), 29 VCCBIAS (power), 30 BYPASS, 31 VCCDIV (power), 32 DATA (in), 33 CLK (in), 34 LE (in), 35 NC, 36 RFOUT (out), 37 GND (power)

## LMX2541SQ3030E/NOPB
designator U?
Ultra-Low Noise PLLatinum Frequency Synthesizer with Integrated VCO, 36-pin LLP, Pb-Free; PartNumber: LMX2541SQ3030E/NOPB; Manufacturer: National Semiconductor; PackageTopMarking: NS*UZXYTTE#*413030E; PowerWise: Y; CompType: Interface IC; DatasheetVersion: Feb-2010; PackageVersion: revA, Jun-2003; PackageReference: SQA36A; PackageDescription: LLP, Plastic, Quad, 6 x 6 x 0.8mm Body, 36 Lead, 0.5mm Pitch, No Pullback; RoHS: Y; PinCount: 36; High-Reliability: Y; ComponentLink1Description: Manufacturer URL; ComponentLink1URL: http://www.national.com/; ComponentLink2Description: LMX2541 Datasheet; ComponentLink2URL: http://www.national.com/ds/LM/LMX2541.pdf; ComponentLink3Description: LMX2541 Web Page; ComponentLink3URL: http://www.national.com/pf/LM/LMX2541.html; ComponentLink4Description: SQA36A Package Page; ComponentLink4URL: http://www.national.com/packaging/folders/sqa36a.html
footprint SQA36A (QFN, 36-Leads, Body 6x6mm, Pitch 0.5mm, Thermal Pad 4.7x4.7mm, NSC Recommended)
pins: 1 GND (power), 2 VREGRFOUT (out), 3 VCCRFOUT (power), 4 L1, 5 LMID, 6 L2, 7 VCCVCO (power), 8 VREGVCO (out), 9 VREFVCO, 10 GND (power), 11 CE (in), 12 EXTVCOIN (in), 13 VCCPLL1, 14 VCCCP1, 15 VTUNE (in), 16 CPOUT (out), 17 FLOUT (out), 18 VCCCP2 (power), 19 VCCPLL2 (power), 20 FTEST/LD (out), 21 OSCIN (in), 22 OSCIN* (in), 23 VCCOSCIN (power), 24 RFOUTEN (in), 25 VCCFRAC (power), 26 VREGFRAC (power), 27 GND (power), 28 VCCDIG (power), 29 VCCBIAS (power), 30 BYPASS, 31 VCCDIV (power), 32 DATA (in), 33 CLK (in), 34 LE (in), 35 NC, 36 RFOUT (out), 37 GND (power)

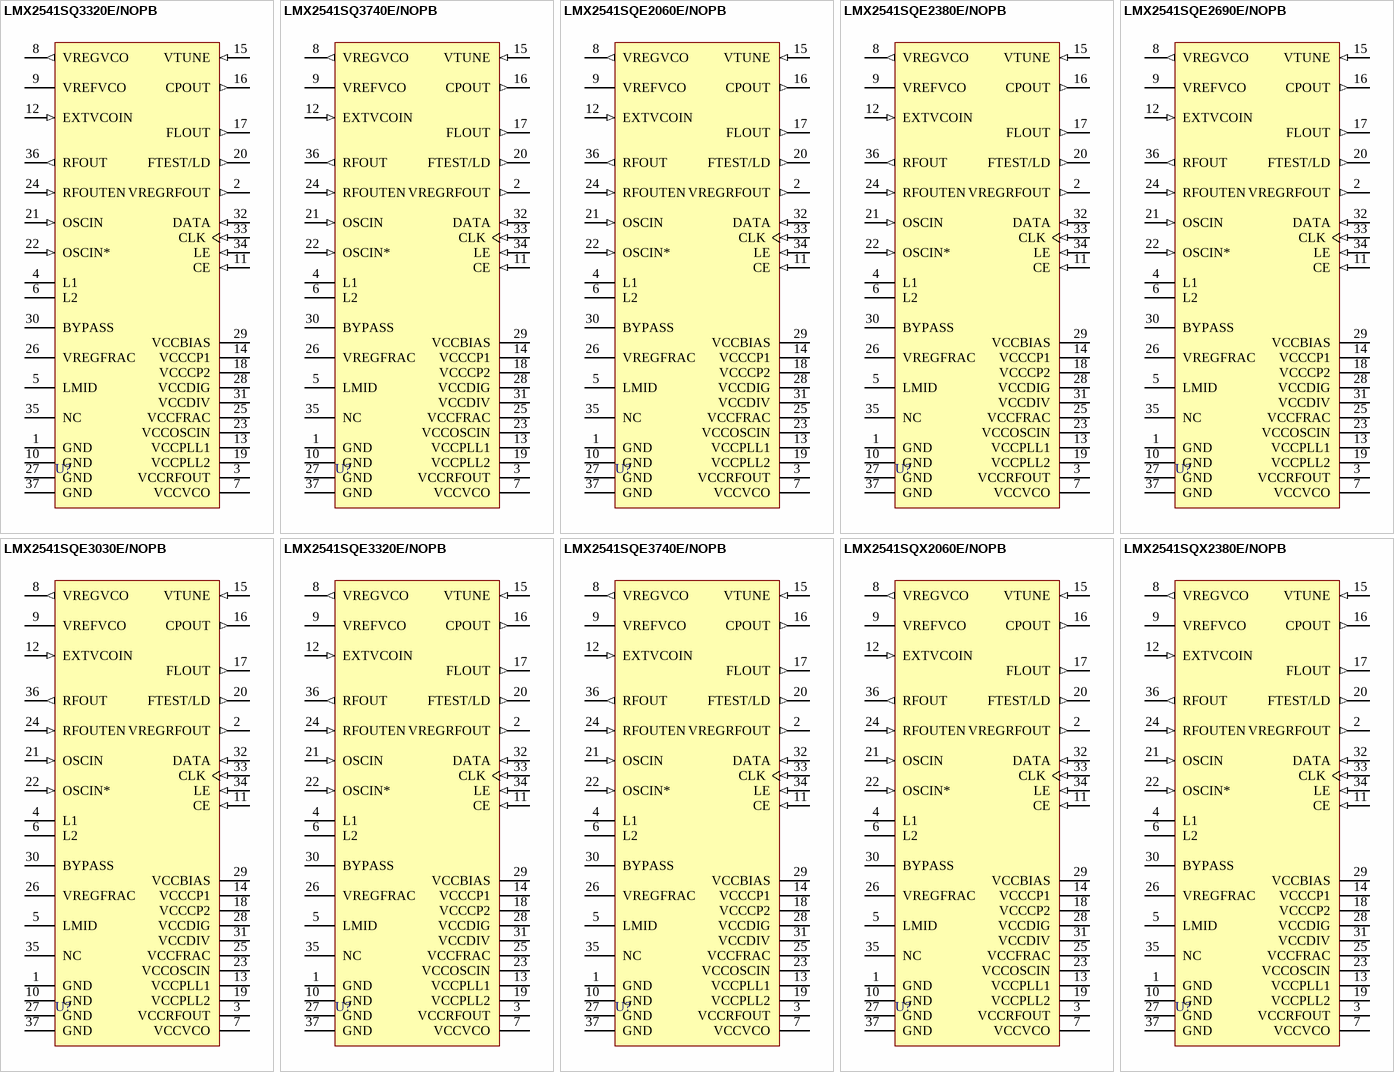
[diagram p109: symbols LMX2541SQ3320E/NOPB to LMX2541SQX2380E/NOPB]

## LMX2541SQ3320E/NOPB
designator U?
Ultra-Low Noise PLLatinum Frequency Synthesizer with Integrated VCO, 36-pin LLP, Pb-Free; PartNumber: LMX2541SQ3320E/NOPB; Manufacturer: National Semiconductor; PackageTopMarking: NS*UZXYTTE#*413320E; PowerWise: Y; CompType: Interface IC; DatasheetVersion: Feb-2010; PackageVersion: revA, Jun-2003; PackageReference: SQA36A; PackageDescription: LLP, Plastic, Quad, 6 x 6 x 0.8mm Body, 36 Lead, 0.5mm Pitch, No Pullback; RoHS: Y; PinCount: 36; High-Reliability: Y; ComponentLink1Description: Manufacturer URL; ComponentLink1URL: http://www.national.com/; ComponentLink2Description: LMX2541 Datasheet; ComponentLink2URL: http://www.national.com/ds/LM/LMX2541.pdf; ComponentLink3Description: LMX2541 Web Page; ComponentLink3URL: http://www.national.com/pf/LM/LMX2541.html; ComponentLink4Description: SQA36A Package Page; ComponentLink4URL: http://www.national.com/packaging/folders/sqa36a.html
footprint SQA36A (QFN, 36-Leads, Body 6x6mm, Pitch 0.5mm, Thermal Pad 4.7x4.7mm, NSC Recommended)
pins: 1 GND (power), 2 VREGRFOUT (out), 3 VCCRFOUT (power), 4 L1, 5 LMID, 6 L2, 7 VCCVCO (power), 8 VREGVCO (out), 9 VREFVCO, 10 GND (power), 11 CE (in), 12 EXTVCOIN (in), 13 VCCPLL1, 14 VCCCP1, 15 VTUNE (in), 16 CPOUT (out), 17 FLOUT (out), 18 VCCCP2 (power), 19 VCCPLL2 (power), 20 FTEST/LD (out), 21 OSCIN (in), 22 OSCIN* (in), 23 VCCOSCIN (power), 24 RFOUTEN (in), 25 VCCFRAC (power), 26 VREGFRAC (power), 27 GND (power), 28 VCCDIG (power), 29 VCCBIAS (power), 30 BYPASS, 31 VCCDIV (power), 32 DATA (in), 33 CLK (in), 34 LE (in), 35 NC, 36 RFOUT (out), 37 GND (power)

## LMX2541SQ3740E/NOPB
designator U?
Ultra-Low Noise PLLatinum Frequency Synthesizer with Integrated VCO, 36-pin LLP, Pb-Free; PartNumber: LMX2541SQ3740E/NOPB; Manufacturer: National Semiconductor; PackageTopMarking: NS*UZXYTTE#*413740E; PowerWise: Y; CompType: Interface IC; DatasheetVersion: Feb-2010; PackageVersion: revA, Jun-2003; PackageReference: SQA36A; PackageDescription: LLP, Plastic, Quad, 6 x 6 x 0.8mm Body, 36 Lead, 0.5mm Pitch, No Pullback; RoHS: Y; PinCount: 36; High-Reliability: Y; ComponentLink1Description: Manufacturer URL; ComponentLink1URL: http://www.national.com/; ComponentLink2Description: LMX2541 Datasheet; ComponentLink2URL: http://www.national.com/ds/LM/LMX2541.pdf; ComponentLink3Description: LMX2541 Web Page; ComponentLink3URL: http://www.national.com/pf/LM/LMX2541.html; ComponentLink4Description: SQA36A Package Page; ComponentLink4URL: http://www.national.com/packaging/folders/sqa36a.html
footprint SQA36A (QFN, 36-Leads, Body 6x6mm, Pitch 0.5mm, Thermal Pad 4.7x4.7mm, NSC Recommended)
pins: 1 GND (power), 2 VREGRFOUT (out), 3 VCCRFOUT (power), 4 L1, 5 LMID, 6 L2, 7 VCCVCO (power), 8 VREGVCO (out), 9 VREFVCO, 10 GND (power), 11 CE (in), 12 EXTVCOIN (in), 13 VCCPLL1, 14 VCCCP1, 15 VTUNE (in), 16 CPOUT (out), 17 FLOUT (out), 18 VCCCP2 (power), 19 VCCPLL2 (power), 20 FTEST/LD (out), 21 OSCIN (in), 22 OSCIN* (in), 23 VCCOSCIN (power), 24 RFOUTEN (in), 25 VCCFRAC (power), 26 VREGFRAC (power), 27 GND (power), 28 VCCDIG (power), 29 VCCBIAS (power), 30 BYPASS, 31 VCCDIV (power), 32 DATA (in), 33 CLK (in), 34 LE (in), 35 NC, 36 RFOUT (out), 37 GND (power)

## LMX2541SQE2060E/NOPB
designator U?
Ultra-Low Noise PLLatinum Frequency Synthesizer with Integrated VCO, 36-pin LLP, Pb-Free; PartNumber: LMX2541SQE2060E/NOPB; Manufacturer: National Semiconductor; PackageTopMarking: NS*UZXYTTE#*412060E; PowerWise: Y; CompType: Interface IC; DatasheetVersion: Feb-2010; PackageVersion: revA, Jun-2003; PackageReference: SQA36A; PackageDescription: LLP, Plastic, Quad, 6 x 6 x 0.8mm Body, 36 Lead, 0.5mm Pitch, No Pullback; RoHS: Y; PinCount: 36; High-Reliability: Y; ComponentLink1Description: Manufacturer URL; ComponentLink1URL: http://www.national.com/; ComponentLink2Description: LMX2541 Datasheet; ComponentLink2URL: http://www.national.com/ds/LM/LMX2541.pdf; ComponentLink3Description: LMX2541 Web Page; ComponentLink3URL: http://www.national.com/pf/LM/LMX2541.html; ComponentLink4Description: SQA36A Package Page; ComponentLink4URL: http://www.national.com/packaging/folders/sqa36a.html
footprint SQA36A (QFN, 36-Leads, Body 6x6mm, Pitch 0.5mm, Thermal Pad 4.7x4.7mm, NSC Recommended)
pins: 1 GND (power), 2 VREGRFOUT (out), 3 VCCRFOUT (power), 4 L1, 5 LMID, 6 L2, 7 VCCVCO (power), 8 VREGVCO (out), 9 VREFVCO, 10 GND (power), 11 CE (in), 12 EXTVCOIN (in), 13 VCCPLL1, 14 VCCCP1, 15 VTUNE (in), 16 CPOUT (out), 17 FLOUT (out), 18 VCCCP2 (power), 19 VCCPLL2 (power), 20 FTEST/LD (out), 21 OSCIN (in), 22 OSCIN* (in), 23 VCCOSCIN (power), 24 RFOUTEN (in), 25 VCCFRAC (power), 26 VREGFRAC (power), 27 GND (power), 28 VCCDIG (power), 29 VCCBIAS (power), 30 BYPASS, 31 VCCDIV (power), 32 DATA (in), 33 CLK (in), 34 LE (in), 35 NC, 36 RFOUT (out), 37 GND (power)

## LMX2541SQE2380E/NOPB
designator U?
Ultra-Low Noise PLLatinum Frequency Synthesizer with Integrated VCO, 36-pin LLP, Pb-Free; PartNumber: LMX2541SQE2380E/NOPB; Manufacturer: National Semiconductor; PackageTopMarking: NS*UZXYTTE#*412380E; PowerWise: Y; CompType: Interface IC; DatasheetVersion: Feb-2010; PackageVersion: revA, Jun-2003; PackageReference: SQA36A; PackageDescription: LLP, Plastic, Quad, 6 x 6 x 0.8mm Body, 36 Lead, 0.5mm Pitch, No Pullback; RoHS: Y; PinCount: 36; High-Reliability: Y; ComponentLink1Description: Manufacturer URL; ComponentLink1URL: http://www.national.com/; ComponentLink2Description: LMX2541 Datasheet; ComponentLink2URL: http://www.national.com/ds/LM/LMX2541.pdf; ComponentLink3Description: LMX2541 Web Page; ComponentLink3URL: http://www.national.com/pf/LM/LMX2541.html; ComponentLink4Description: SQA36A Package Page; ComponentLink4URL: http://www.national.com/packaging/folders/sqa36a.html
footprint SQA36A (QFN, 36-Leads, Body 6x6mm, Pitch 0.5mm, Thermal Pad 4.7x4.7mm, NSC Recommended)
pins: 1 GND (power), 2 VREGRFOUT (out), 3 VCCRFOUT (power), 4 L1, 5 LMID, 6 L2, 7 VCCVCO (power), 8 VREGVCO (out), 9 VREFVCO, 10 GND (power), 11 CE (in), 12 EXTVCOIN (in), 13 VCCPLL1, 14 VCCCP1, 15 VTUNE (in), 16 CPOUT (out), 17 FLOUT (out), 18 VCCCP2 (power), 19 VCCPLL2 (power), 20 FTEST/LD (out), 21 OSCIN (in), 22 OSCIN* (in), 23 VCCOSCIN (power), 24 RFOUTEN (in), 25 VCCFRAC (power), 26 VREGFRAC (power), 27 GND (power), 28 VCCDIG (power), 29 VCCBIAS (power), 30 BYPASS, 31 VCCDIV (power), 32 DATA (in), 33 CLK (in), 34 LE (in), 35 NC, 36 RFOUT (out), 37 GND (power)

## LMX2541SQE2690E/NOPB
designator U?
Ultra-Low Noise PLLatinum Frequency Synthesizer with Integrated VCO, 36-pin LLP, Pb-Free; PartNumber: LMX2541SQE2690E/NOPB; Manufacturer: National Semiconductor; PackageTopMarking: NS*UZXYTTE#*412690E; PowerWise: Y; CompType: Interface IC; DatasheetVersion: Feb-2010; PackageVersion: revA, Jun-2003; PackageReference: SQA36A; PackageDescription: LLP, Plastic, Quad, 6 x 6 x 0.8mm Body, 36 Lead, 0.5mm Pitch, No Pullback; RoHS: Y; PinCount: 36; High-Reliability: Y; ComponentLink1Description: Manufacturer URL; ComponentLink1URL: http://www.national.com/; ComponentLink2Description: LMX2541 Datasheet; ComponentLink2URL: http://www.national.com/ds/LM/LMX2541.pdf; ComponentLink3Description: LMX2541 Web Page; ComponentLink3URL: http://www.national.com/pf/LM/LMX2541.html; ComponentLink4Description: SQA36A Package Page; ComponentLink4URL: http://www.national.com/packaging/folders/sqa36a.html
footprint SQA36A (QFN, 36-Leads, Body 6x6mm, Pitch 0.5mm, Thermal Pad 4.7x4.7mm, NSC Recommended)
pins: 1 GND (power), 2 VREGRFOUT (out), 3 VCCRFOUT (power), 4 L1, 5 LMID, 6 L2, 7 VCCVCO (power), 8 VREGVCO (out), 9 VREFVCO, 10 GND (power), 11 CE (in), 12 EXTVCOIN (in), 13 VCCPLL1, 14 VCCCP1, 15 VTUNE (in), 16 CPOUT (out), 17 FLOUT (out), 18 VCCCP2 (power), 19 VCCPLL2 (power), 20 FTEST/LD (out), 21 OSCIN (in), 22 OSCIN* (in), 23 VCCOSCIN (power), 24 RFOUTEN (in), 25 VCCFRAC (power), 26 VREGFRAC (power), 27 GND (power), 28 VCCDIG (power), 29 VCCBIAS (power), 30 BYPASS, 31 VCCDIV (power), 32 DATA (in), 33 CLK (in), 34 LE (in), 35 NC, 36 RFOUT (out), 37 GND (power)

## LMX2541SQE3030E/NOPB
designator U?
Ultra-Low Noise PLLatinum Frequency Synthesizer with Integrated VCO, 36-pin LLP, Pb-Free; PartNumber: LMX2541SQE3030E/NOPB; Manufacturer: National Semiconductor; PackageTopMarking: NS*UZXYTTE#*413030E; PowerWise: Y; CompType: Interface IC; DatasheetVersion: Feb-2010; PackageVersion: revA, Jun-2003; PackageReference: SQA36A; PackageDescription: LLP, Plastic, Quad, 6 x 6 x 0.8mm Body, 36 Lead, 0.5mm Pitch, No Pullback; RoHS: Y; PinCount: 36; High-Reliability: Y; ComponentLink1Description: Manufacturer URL; ComponentLink1URL: http://www.national.com/; ComponentLink2Description: LMX2541 Datasheet; ComponentLink2URL: http://www.national.com/ds/LM/LMX2541.pdf; ComponentLink3Description: LMX2541 Web Page; ComponentLink3URL: http://www.national.com/pf/LM/LMX2541.html; ComponentLink4Description: SQA36A Package Page; ComponentLink4URL: http://www.national.com/packaging/folders/sqa36a.html
footprint SQA36A (QFN, 36-Leads, Body 6x6mm, Pitch 0.5mm, Thermal Pad 4.7x4.7mm, NSC Recommended)
pins: 1 GND (power), 2 VREGRFOUT (out), 3 VCCRFOUT (power), 4 L1, 5 LMID, 6 L2, 7 VCCVCO (power), 8 VREGVCO (out), 9 VREFVCO, 10 GND (power), 11 CE (in), 12 EXTVCOIN (in), 13 VCCPLL1, 14 VCCCP1, 15 VTUNE (in), 16 CPOUT (out), 17 FLOUT (out), 18 VCCCP2 (power), 19 VCCPLL2 (power), 20 FTEST/LD (out), 21 OSCIN (in), 22 OSCIN* (in), 23 VCCOSCIN (power), 24 RFOUTEN (in), 25 VCCFRAC (power), 26 VREGFRAC (power), 27 GND (power), 28 VCCDIG (power), 29 VCCBIAS (power), 30 BYPASS, 31 VCCDIV (power), 32 DATA (in), 33 CLK (in), 34 LE (in), 35 NC, 36 RFOUT (out), 37 GND (power)

## LMX2541SQE3320E/NOPB
designator U?
Ultra-Low Noise PLLatinum Frequency Synthesizer with Integrated VCO, 36-pin LLP, Pb-Free; PartNumber: LMX2541SQE3320E/NOPB; Manufacturer: National Semiconductor; PackageTopMarking: NS*UZXYTTE#*413320E; PowerWise: Y; CompType: Interface IC; DatasheetVersion: Feb-2010; PackageVersion: revA, Jun-2003; PackageReference: SQA36A; PackageDescription: LLP, Plastic, Quad, 6 x 6 x 0.8mm Body, 36 Lead, 0.5mm Pitch, No Pullback; RoHS: Y; PinCount: 36; High-Reliability: Y; ComponentLink1Description: Manufacturer URL; ComponentLink1URL: http://www.national.com/; ComponentLink2Description: LMX2541 Datasheet; ComponentLink2URL: http://www.national.com/ds/LM/LMX2541.pdf; ComponentLink3Description: LMX2541 Web Page; ComponentLink3URL: http://www.national.com/pf/LM/LMX2541.html; ComponentLink4Description: SQA36A Package Page; ComponentLink4URL: http://www.national.com/packaging/folders/sqa36a.html
footprint SQA36A (QFN, 36-Leads, Body 6x6mm, Pitch 0.5mm, Thermal Pad 4.7x4.7mm, NSC Recommended)
pins: 1 GND (power), 2 VREGRFOUT (out), 3 VCCRFOUT (power), 4 L1, 5 LMID, 6 L2, 7 VCCVCO (power), 8 VREGVCO (out), 9 VREFVCO, 10 GND (power), 11 CE (in), 12 EXTVCOIN (in), 13 VCCPLL1, 14 VCCCP1, 15 VTUNE (in), 16 CPOUT (out), 17 FLOUT (out), 18 VCCCP2 (power), 19 VCCPLL2 (power), 20 FTEST/LD (out), 21 OSCIN (in), 22 OSCIN* (in), 23 VCCOSCIN (power), 24 RFOUTEN (in), 25 VCCFRAC (power), 26 VREGFRAC (power), 27 GND (power), 28 VCCDIG (power), 29 VCCBIAS (power), 30 BYPASS, 31 VCCDIV (power), 32 DATA (in), 33 CLK (in), 34 LE (in), 35 NC, 36 RFOUT (out), 37 GND (power)

## LMX2541SQE3740E/NOPB
designator U?
Ultra-Low Noise PLLatinum Frequency Synthesizer with Integrated VCO, 36-pin LLP, Pb-Free; PartNumber: LMX2541SQE3740E/NOPB; Manufacturer: National Semiconductor; PackageTopMarking: NS*UZXYTTE#*413740E; PowerWise: Y; CompType: Interface IC; DatasheetVersion: Feb-2010; PackageVersion: revA, Jun-2003; PackageReference: SQA36A; PackageDescription: LLP, Plastic, Quad, 6 x 6 x 0.8mm Body, 36 Lead, 0.5mm Pitch, No Pullback; RoHS: Y; PinCount: 36; High-Reliability: Y; ComponentLink1Description: Manufacturer URL; ComponentLink1URL: http://www.national.com/; ComponentLink2Description: LMX2541 Datasheet; ComponentLink2URL: http://www.national.com/ds/LM/LMX2541.pdf; ComponentLink3Description: LMX2541 Web Page; ComponentLink3URL: http://www.national.com/pf/LM/LMX2541.html; ComponentLink4Description: SQA36A Package Page; ComponentLink4URL: http://www.national.com/packaging/folders/sqa36a.html
footprint SQA36A (QFN, 36-Leads, Body 6x6mm, Pitch 0.5mm, Thermal Pad 4.7x4.7mm, NSC Recommended)
pins: 1 GND (power), 2 VREGRFOUT (out), 3 VCCRFOUT (power), 4 L1, 5 LMID, 6 L2, 7 VCCVCO (power), 8 VREGVCO (out), 9 VREFVCO, 10 GND (power), 11 CE (in), 12 EXTVCOIN (in), 13 VCCPLL1, 14 VCCCP1, 15 VTUNE (in), 16 CPOUT (out), 17 FLOUT (out), 18 VCCCP2 (power), 19 VCCPLL2 (power), 20 FTEST/LD (out), 21 OSCIN (in), 22 OSCIN* (in), 23 VCCOSCIN (power), 24 RFOUTEN (in), 25 VCCFRAC (power), 26 VREGFRAC (power), 27 GND (power), 28 VCCDIG (power), 29 VCCBIAS (power), 30 BYPASS, 31 VCCDIV (power), 32 DATA (in), 33 CLK (in), 34 LE (in), 35 NC, 36 RFOUT (out), 37 GND (power)

## LMX2541SQX2060E/NOPB
designator U?
Ultra-Low Noise PLLatinum Frequency Synthesizer with Integrated VCO, 36-pin LLP, Pb-Free; PartNumber: LMX2541SQX2060E/NOPB; Manufacturer: National Semiconductor; PackageTopMarking: NS*UZXYTTE#*412060E; PowerWise: Y; CompType: Interface IC; DatasheetVersion: Feb-2010; PackageVersion: revA, Jun-2003; PackageReference: SQA36A; PackageDescription: LLP, Plastic, Quad, 6 x 6 x 0.8mm Body, 36 Lead, 0.5mm Pitch, No Pullback; RoHS: Y; PinCount: 36; High-Reliability: Y; ComponentLink1Description: Manufacturer URL; ComponentLink1URL: http://www.national.com/; ComponentLink2Description: LMX2541 Datasheet; ComponentLink2URL: http://www.national.com/ds/LM/LMX2541.pdf; ComponentLink3Description: LMX2541 Web Page; ComponentLink3URL: http://www.national.com/pf/LM/LMX2541.html; ComponentLink4Description: SQA36A Package Page; ComponentLink4URL: http://www.national.com/packaging/folders/sqa36a.html
footprint SQA36A (QFN, 36-Leads, Body 6x6mm, Pitch 0.5mm, Thermal Pad 4.7x4.7mm, NSC Recommended)
pins: 1 GND (power), 2 VREGRFOUT (out), 3 VCCRFOUT (power), 4 L1, 5 LMID, 6 L2, 7 VCCVCO (power), 8 VREGVCO (out), 9 VREFVCO, 10 GND (power), 11 CE (in), 12 EXTVCOIN (in), 13 VCCPLL1, 14 VCCCP1, 15 VTUNE (in), 16 CPOUT (out), 17 FLOUT (out), 18 VCCCP2 (power), 19 VCCPLL2 (power), 20 FTEST/LD (out), 21 OSCIN (in), 22 OSCIN* (in), 23 VCCOSCIN (power), 24 RFOUTEN (in), 25 VCCFRAC (power), 26 VREGFRAC (power), 27 GND (power), 28 VCCDIG (power), 29 VCCBIAS (power), 30 BYPASS, 31 VCCDIV (power), 32 DATA (in), 33 CLK (in), 34 LE (in), 35 NC, 36 RFOUT (out), 37 GND (power)

## LMX2541SQX2380E/NOPB
designator U?
Ultra-Low Noise PLLatinum Frequency Synthesizer with Integrated VCO, 36-pin LLP, Pb-Free; PartNumber: LMX2541SQX2380E/NOPB; Manufacturer: National Semiconductor; PackageTopMarking: NS*UZXYTTE#*412380E; PowerWise: Y; CompType: Interface IC; DatasheetVersion: Feb-2010; PackageVersion: revA, Jun-2003; PackageReference: SQA36A; PackageDescription: LLP, Plastic, Quad, 6 x 6 x 0.8mm Body, 36 Lead, 0.5mm Pitch, No Pullback; RoHS: Y; PinCount: 36; High-Reliability: Y; ComponentLink1Description: Manufacturer URL; ComponentLink1URL: http://www.national.com/; ComponentLink2Description: LMX2541 Datasheet; ComponentLink2URL: http://www.national.com/ds/LM/LMX2541.pdf; ComponentLink3Description: LMX2541 Web Page; ComponentLink3URL: http://www.national.com/pf/LM/LMX2541.html; ComponentLink4Description: SQA36A Package Page; ComponentLink4URL: http://www.national.com/packaging/folders/sqa36a.html
footprint SQA36A (QFN, 36-Leads, Body 6x6mm, Pitch 0.5mm, Thermal Pad 4.7x4.7mm, NSC Recommended)
pins: 1 GND (power), 2 VREGRFOUT (out), 3 VCCRFOUT (power), 4 L1, 5 LMID, 6 L2, 7 VCCVCO (power), 8 VREGVCO (out), 9 VREFVCO, 10 GND (power), 11 CE (in), 12 EXTVCOIN (in), 13 VCCPLL1, 14 VCCCP1, 15 VTUNE (in), 16 CPOUT (out), 17 FLOUT (out), 18 VCCCP2 (power), 19 VCCPLL2 (power), 20 FTEST/LD (out), 21 OSCIN (in), 22 OSCIN* (in), 23 VCCOSCIN (power), 24 RFOUTEN (in), 25 VCCFRAC (power), 26 VREGFRAC (power), 27 GND (power), 28 VCCDIG (power), 29 VCCBIAS (power), 30 BYPASS, 31 VCCDIV (power), 32 DATA (in), 33 CLK (in), 34 LE (in), 35 NC, 36 RFOUT (out), 37 GND (power)

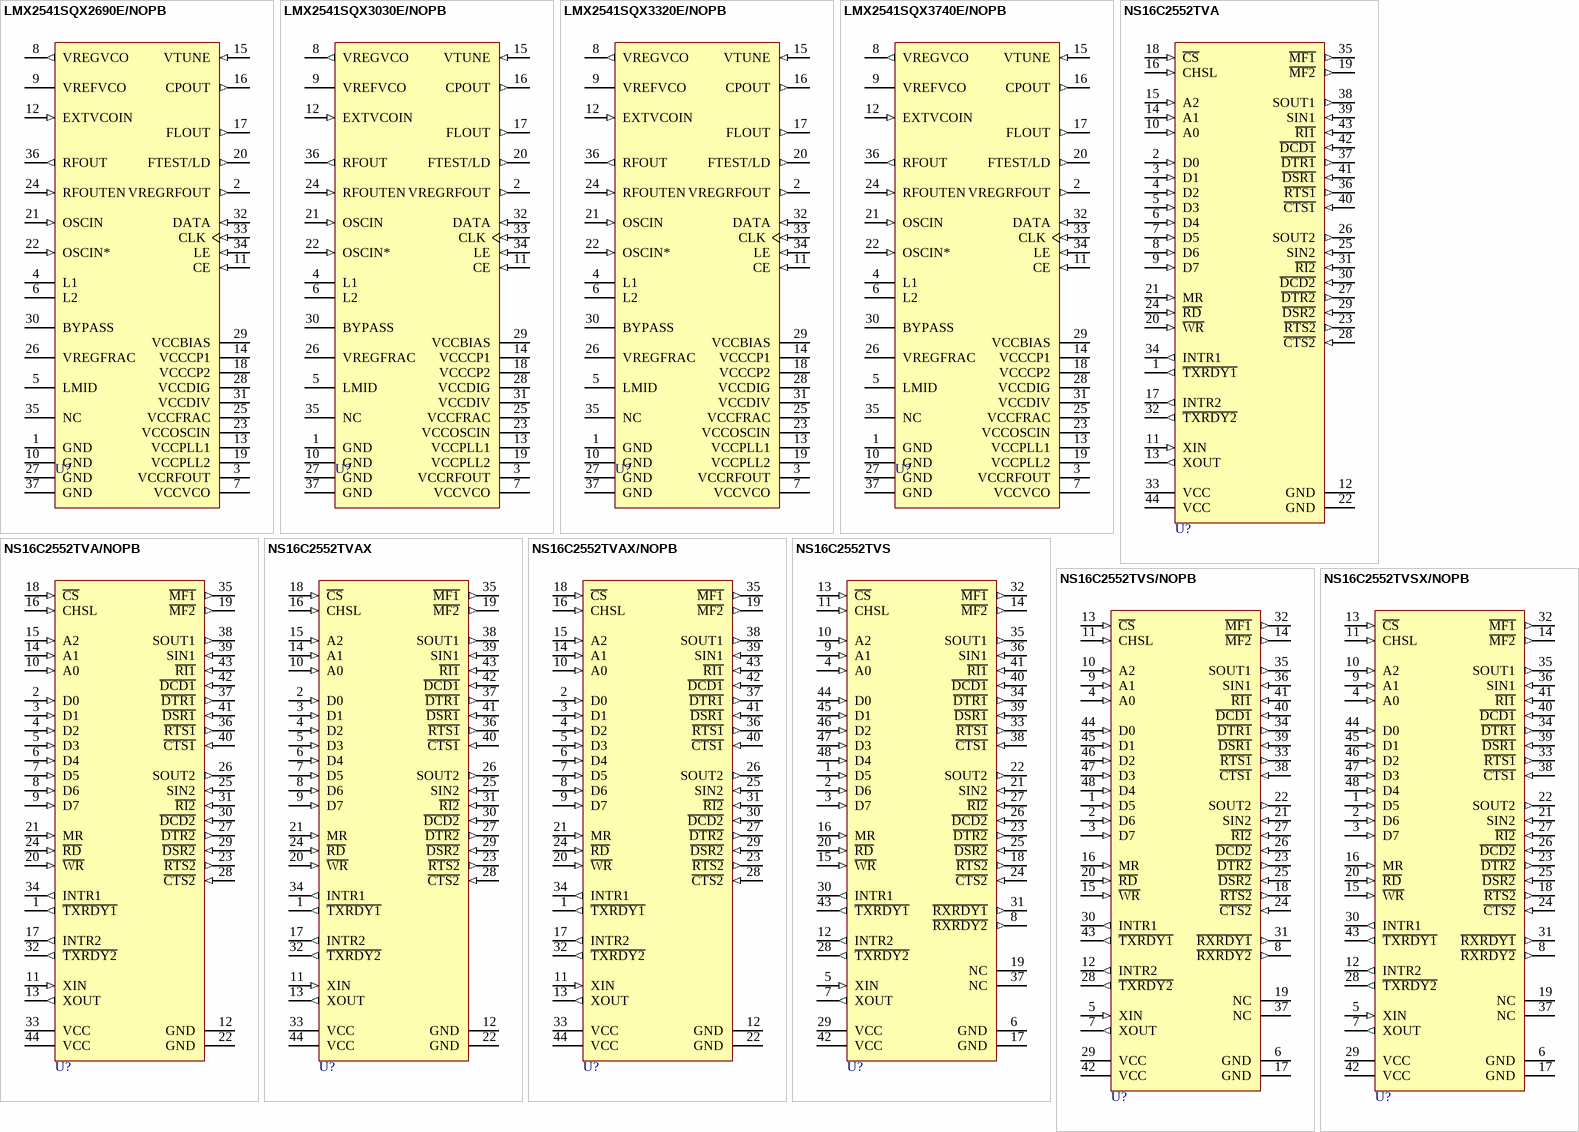
[diagram p110: symbols LMX2541SQX2690E/NOPB to NS16C2552TVSX/NOPB]

## LMX2541SQX2690E/NOPB
designator U?
Ultra-Low Noise PLLatinum Frequency Synthesizer with Integrated VCO, 36-pin LLP, Pb-Free; PartNumber: LMX2541SQX2690E/NOPB; Manufacturer: National Semiconductor; PackageTopMarking: NS*UZXYTTE#*412690E; PowerWise: Y; CompType: Interface IC; DatasheetVersion: Feb-2010; PackageVersion: revA, Jun-2003; PackageReference: SQA36A; PackageDescription: LLP, Plastic, Quad, 6 x 6 x 0.8mm Body, 36 Lead, 0.5mm Pitch, No Pullback; RoHS: Y; PinCount: 36; High-Reliability: Y; ComponentLink1Description: Manufacturer URL; ComponentLink1URL: http://www.national.com/; ComponentLink2Description: LMX2541 Datasheet; ComponentLink2URL: http://www.national.com/ds/LM/LMX2541.pdf; ComponentLink3Description: LMX2541 Web Page; ComponentLink3URL: http://www.national.com/pf/LM/LMX2541.html; ComponentLink4Description: SQA36A Package Page; ComponentLink4URL: http://www.national.com/packaging/folders/sqa36a.html
footprint SQA36A (QFN, 36-Leads, Body 6x6mm, Pitch 0.5mm, Thermal Pad 4.7x4.7mm, NSC Recommended)
pins: 1 GND (power), 2 VREGRFOUT (out), 3 VCCRFOUT (power), 4 L1, 5 LMID, 6 L2, 7 VCCVCO (power), 8 VREGVCO (out), 9 VREFVCO, 10 GND (power), 11 CE (in), 12 EXTVCOIN (in), 13 VCCPLL1, 14 VCCCP1, 15 VTUNE (in), 16 CPOUT (out), 17 FLOUT (out), 18 VCCCP2 (power), 19 VCCPLL2 (power), 20 FTEST/LD (out), 21 OSCIN (in), 22 OSCIN* (in), 23 VCCOSCIN (power), 24 RFOUTEN (in), 25 VCCFRAC (power), 26 VREGFRAC (power), 27 GND (power), 28 VCCDIG (power), 29 VCCBIAS (power), 30 BYPASS, 31 VCCDIV (power), 32 DATA (in), 33 CLK (in), 34 LE (in), 35 NC, 36 RFOUT (out), 37 GND (power)

## LMX2541SQX3030E/NOPB
designator U?
Ultra-Low Noise PLLatinum Frequency Synthesizer with Integrated VCO, 36-pin LLP, Pb-Free; PartNumber: LMX2541SQX3030E/NOPB; Manufacturer: National Semiconductor; PackageTopMarking: NS*UZXYTTE#*413030E; PowerWise: Y; CompType: Interface IC; DatasheetVersion: Feb-2010; PackageVersion: revA, Jun-2003; PackageReference: SQA36A; PackageDescription: LLP, Plastic, Quad, 6 x 6 x 0.8mm Body, 36 Lead, 0.5mm Pitch, No Pullback; RoHS: Y; PinCount: 36; High-Reliability: Y; ComponentLink1Description: Manufacturer URL; ComponentLink1URL: http://www.national.com/; ComponentLink2Description: LMX2541 Datasheet; ComponentLink2URL: http://www.national.com/ds/LM/LMX2541.pdf; ComponentLink3Description: LMX2541 Web Page; ComponentLink3URL: http://www.national.com/pf/LM/LMX2541.html; ComponentLink4Description: SQA36A Package Page; ComponentLink4URL: http://www.national.com/packaging/folders/sqa36a.html
footprint SQA36A (QFN, 36-Leads, Body 6x6mm, Pitch 0.5mm, Thermal Pad 4.7x4.7mm, NSC Recommended)
pins: 1 GND (power), 2 VREGRFOUT (out), 3 VCCRFOUT (power), 4 L1, 5 LMID, 6 L2, 7 VCCVCO (power), 8 VREGVCO (out), 9 VREFVCO, 10 GND (power), 11 CE (in), 12 EXTVCOIN (in), 13 VCCPLL1, 14 VCCCP1, 15 VTUNE (in), 16 CPOUT (out), 17 FLOUT (out), 18 VCCCP2 (power), 19 VCCPLL2 (power), 20 FTEST/LD (out), 21 OSCIN (in), 22 OSCIN* (in), 23 VCCOSCIN (power), 24 RFOUTEN (in), 25 VCCFRAC (power), 26 VREGFRAC (power), 27 GND (power), 28 VCCDIG (power), 29 VCCBIAS (power), 30 BYPASS, 31 VCCDIV (power), 32 DATA (in), 33 CLK (in), 34 LE (in), 35 NC, 36 RFOUT (out), 37 GND (power)